# EAGLE library part 5102160-6 (library Tyco_By_element14_Batch_1)
WIRE-BOARD CONN, HEADER, 26POS
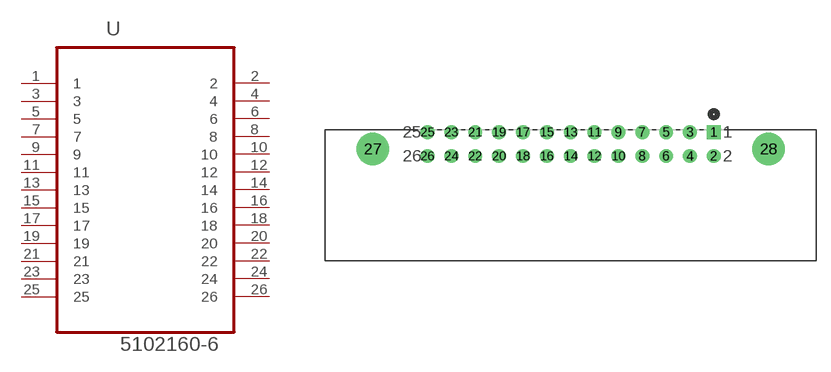
[diagram p81: symbol with the pads of TYCO_5102160-6; footprint TYCO_5102160-6]

Designator prefix U

## 5102160-6 (MPN: 5102160-6; OC_FARNELL: 1363349; OC_NEWARK: 16M3186; PACKAGE: WIRE-BOARD CONN, HEADER, 26POS; SUPPLIER: TYCO ELECTRONICS)  [TYCO_5102160-6]
1  1  pas
2  2  pas
3  3  pas
4  4  pas
5  5  pas
6  6  pas
7  7  pas
8  8  pas
9  9  pas
10  10  pas
11  11  pas
12  12  pas
13  13  pas
14  14  pas
15  15  pas
16  16  pas
17  17  pas
18  18  pas
19  19  pas
20  20  pas
21  21  pas
22  22  pas
23  23  pas
24  24  pas
25  25  pas
26  26  pas

## Footprint TYCO_5102160-6 (pad centres in mm)
drill 0.965 square: 1 30.48,2.54
drill 0.965: 2 30.48,0; 3 27.94,2.54; 4 27.94,0; 5 25.4,2.54; 6 25.4,0; 7 22.86,2.54; 8 22.86,0; 9 20.32,2.54; 10 20.32,0; 11 17.78,2.54; 12 17.78,0; 13 15.24,2.54; 14 15.24,0; 15 12.7,2.54; 16 12.7,0; 17 10.16,2.54; 18 10.16,0; 19 7.62,2.54; 20 7.62,0; 21 5.08,2.54; 22 5.08,0; 23 2.54,2.54; 24 2.54,0; 25 0,2.54; 26 0,0
drill 2.438: 27 -5.842,0.737; 28 36.322,0.737